# Altium schematic symbol library UUN1E221MNQ1MS.SchLib: 1 symbol
Pins are listed as number, name and electrical type; pins without a type are passive.

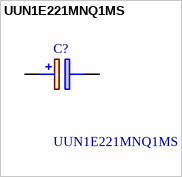
[diagram p0: symbol UUN1E221MNQ1MS]

## UUN1E221MNQ1MS
designator C?
Aluminum Electrolytic Capacitors - SMD 220uF 25V 20% 105C 12.5X13.5; Manufacturer_Name: Nichicon; Geometry.Height: 14.5mm; Manufacturer_Part_Number: UUN1E221MNQ1MS; Mouser Part Number: 647-UUN1E221MNQ1MS; Mouser Price/Stock: https://www.mouser.co.uk/ProductDetail/Nichicon/UUN1E221MNQ1MS?qs=foqSp1HUgzsQeD6U5XTchA%3D%3D; Arrow Part Number: *; Arrow Price/Stock: *; Datasheet Link: https://componentsearchengine.com/Datasheets/1/UUN1E221MNQ1MS.pdf
footprint CAPAE1360X1450N
pins: 1 +, 2 -